# EAGLE library part DIP-16 (library SM-IC-Packages)
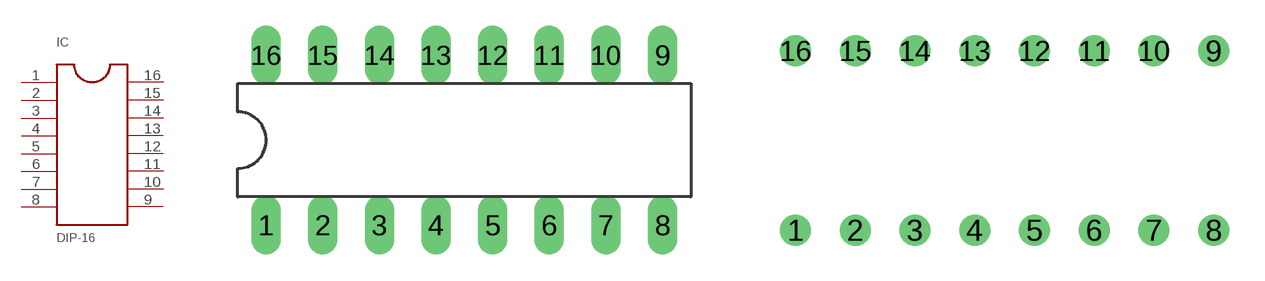
[diagram p3: symbol with the pads of DIP-16; footprints DIP-16, DIP-16-SOCKET]

Designator prefix IC

## DIP-16  [DIP-16]
1  P$1  in
2  P$2  in
3  P$3  in
4  P$4  in
5  P$5  in
6  P$6  in
7  P$7  in
8  P$8  in
9  P$9  in
10  P$10  in
11  P$11  in
12  P$12  in
13  P$13  in
14  P$14  in
15  P$15  in
16  P$16  in

## DIP-16S  [DIP-16-SOCKET]
Pads as for DIP-16

## Footprint DIP-16 (pad centres in mm)
drill 0.813 long: 1 -2.54,-2.54; 2 0,-2.54; 3 2.54,-2.54; 4 5.08,-2.54; 5 7.62,-2.54; 6 10.16,-2.54; 7 12.7,-2.54; 8 15.24,-2.54; 9 15.24,5.08; 10 12.7,5.08; 11 10.16,5.08; 12 7.62,5.08; 13 5.08,5.08; 14 2.54,5.08; 15 0,5.08; 16 -2.54,5.08

## Footprint DIP-16-SOCKET (pad centres in mm)
drill 0.813: 1 -7.62,-2.54; 2 -5.08,-2.54; 3 -2.54,-2.54; 4 0,-2.54; 5 2.54,-2.54; 6 5.08,-2.54; 7 7.62,-2.54; 8 10.16,-2.54; 9 10.16,5.08; 10 7.62,5.08; 11 5.08,5.08; 12 2.54,5.08; 13 0,5.08; 14 -2.54,5.08; 15 -5.08,5.08; 16 -7.62,5.08